# EAGLE library part 74HC2GU04 (library mille-feuille)
Dual line drivers with 3-state outputs.
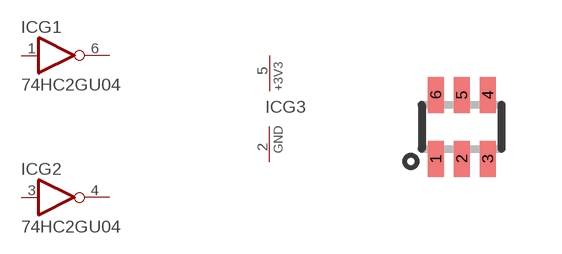
[diagram p53: symbol with the pads of SOT363; footprint SOT363]

Designator prefix IC; gates G1=74125 G2=74125 G3=PWRN3V3

## 74HC2GU04GW  [SOT363]
1  G1:I  in
2  G3:GND  pwr
3  G2:I  in
4  G2:O  hiz
5  G3:+3V3  pwr
6  G1:O  hiz

## Footprint SOT363 (pad centres in mm)
smd 0.4 x 0.9: 1 -0.65,-0.8; 2 0,-0.8; 3 0.65,-0.8; 4 0.65,0.8; 5 0,0.8; 6 -0.65,0.8